# Altium schematic symbol library DSC60XX.SchLib: 2 symbols
Pins are listed as number, name and electrical type; pins without a type are passive.

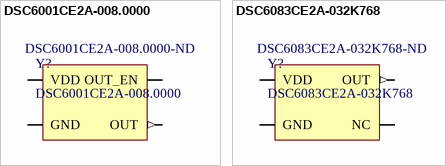
[diagram p0: symbols DSC6001CE2A-008.0000 to DSC6083CE2A-032K768]

## DSC6001CE2A-008.0000
designator Y?  Supplier Part Number 1: DSC6001CE2A-008.0000-ND
Microchip Technology / DSC60xx Series Oscillator / 8.00 MHz; Supplier 1: Digi-Key
footprint CDFN3.2x2.5
pins: 1 OUT_EN, 2 GND (power), 3 OUT (out), 4 VDD (power)

## DSC6083CE2A-032K768
designator Y?  Supplier Part Number 1: DSC6083CE2A-032K768-ND
Microchip Technology / DSC60xx Series Oscillator / 32.768KHz; Supplier 1: Digi-Key
footprint CDFN3.2x2.5
pins: 1 OUT (out), 2 GND (power), 3 NC, 4 VDD (power)